# Altium footprint library SJ2088POE.PcbLib: 31 footprints (part 1 of 2)
Each footprint in its own frame and in the unit in brackets; x right, y up, seen from the top. Pads: shape width x height; smd on the part's side, far side on the other; paste and mask are expansions set on the pad; w line width, h text height; cw(c..) or ccw(c..) is an arc to the next point about the centre after c.
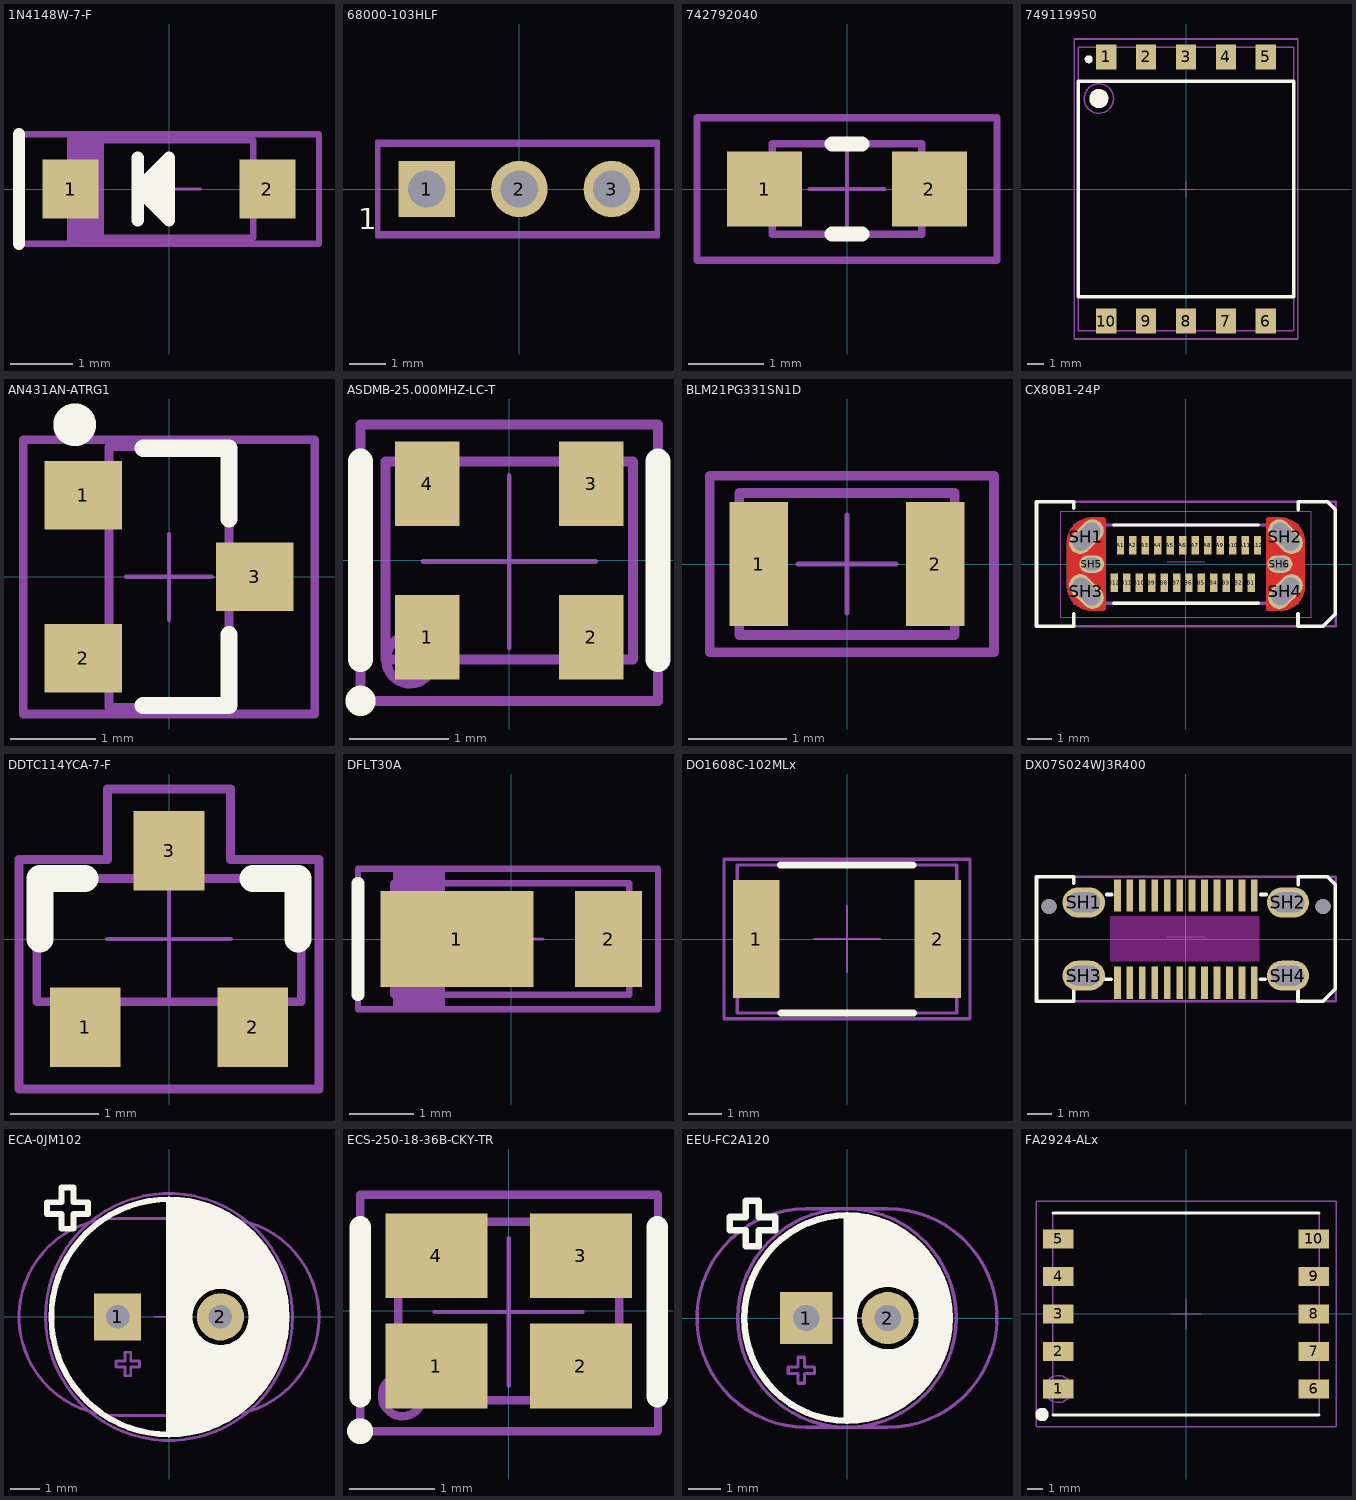
[diagram p0: the footprints below, top view; thin cyan lines are the x and y axes]

## 1N4148W-7-F [mm] "SOD123, 2-Leads, Body 2.7x1.55mm, Height 1.45mm"
height 1.45
pads (2):
  rect 0.9x0.95 smd: 1(-1.575,0) 2(1.575,0)
Top Overlay:
  region: 0,-0.5 0,0.5 -0.5,0
  lines w0.2: -2.4,-0.875 -2.4,0.875 ; -0.5,-0.5 -0.5,0 ; -0.5,0.5 -0.5,0 ; -0.5,0 0,0.5 0,-0.5 -0.5,0
Top Assembly:
  pour cut-out: -1.044,-0.875
  region: -1.044,-0.875 -1.044,0.875 -1.628,0.875 -1.628,-0.875
  lines w0.1: -2.4,-0.875 2.4,-0.875 2.4,0.875 -2.4,0.875 -2.4,-0.875
  text "'.Designator'" at 0,0 h1
Top Courtyard:
  lines w0.05: -0.5,0 0.5,0 ; 0,-0.5 0,0.5 ; -2.4,-0.875 2.4,-0.875 2.4,0.875 -2.4,0.875 -2.4,-0.875
Top Component Outline:
  lines w0.1: -1.35,-0.775 -1.35,0.775 1.35,0.775 1.35,-0.775 -1.35,-0.775
3D body: height 1.45, standoff 0, extent -1.35,-0.775 1.35,0.775

## 68000-103HLF [mm] "Connector Header Through Hole 3 position 0.100\" (2.54mm)"
height 8.38
pads (3):
  rect 1.55x1.55 hole 1.02: 1(-2.54,0)
  round 1.55 hole 1.02: 2(0,0) 3(2.54,0)
Top Overlay:
  text "1" at -4.43,-1.3 h1
Top Assembly:
  lines w0.1: -3.91,-1.305 3.81,-1.305 3.81,1.305 -3.91,1.305 -3.91,-1.305
  text "'.Designator'" at 0,0 h1
Top Courtyard:
  lines w0.05: -0.5,0 0.5,0 ; 0,-0.5 0,0.5 ; -3.91,-1.305 -3.91,1.305 3.81,1.305 3.81,-1.305 -3.91,-1.305
Top Component Outline:
  lines w0.1: -3.86,-1.205 3.76,-1.205 3.76,1.205 -3.86,1.205 -3.86,-1.205
3D body "68000-x03.stp": height 8.43, standoff -2.37, extent -3.86,-1.207 3.76,1.207

## 742792040 [mm] "Chip Inductor, 2-Leads, Body 2.0x1.2mm"
height 1.1
pads (2):
  rect 1x1 smd: 1(-1.1,0) 2(1.1,0)
Top Overlay:
  lines w0.1: 0,0.6 -0.2,0.6 ; -0.2,0.6 -0.2,0.6
  lines w0.2: -0.2,-0.6 0.2,-0.6 ; -0.2,0.6 0.2,0.6
Top Assembly:
  lines w0.1: -2,-0.95 -2,0.95 2,0.95 2,-0.95 -2,-0.95
  text "'.Designator'" at 0,0 h1
Top Courtyard:
  lines w0.05: -0.5,0 0.5,0 ; 0,-0.5 0,0.5 ; -2,-0.95 -2,0.95 2,0.95 2,-0.95 -2,-0.95
Top Component Outline:
  lines w0.1: -1,-0.6 -1,0.6 1,0.6 1,-0.6 -1,-0.6
3D body "74279201.stp": height 0.89, standoff -0.01, extent -1,-0.6 1,0.6

## 749119950 [mm] "SMD, 10-Leads, Body 13.5x14.0mm (max), Pitch 2.48mm, IPC Medium Density"
height 12.5
pads (10):
  rect 1.27x1.55 smd: 1(-5,8.275) 2(-2.5,8.275) 3(0,8.275) 4(2.5,8.275) 5(5,8.275) 6(5,-8.275) 7(2.5,-8.275) 8(0,-8.275) 9(-2.5,-8.275) 10(-5,-8.275)
Top Overlay:
  circle w0.6: c-5.461,5.669 r0.3
  circle w0.25: c-6.096,8.13 r0.125
  lines w0.2: -6.75,-6.75 -6.75,6.75 6.75,6.75 6.75,-6.75 -6.75,-6.75
Top Assembly:
  circle w0.1: c-5.461,5.669 r0.921
  lines w0.1: -7,-9.4 -7,9.1 -7,9.4 7,9.4 7,4.75 7,-9.4 -7,-9.4
  text "'.Designator'" at 0,0 h1
Top Courtyard:
  lines w0.05: -0.5,0 0.5,0 ; 0,-0.5 0,0.5 ; -7,-9.4 -7,9.4 7,9.4 7,-9.4 -7,-9.4
Top Component Outline:
  lines w0.1: -6.75,-8.875 -6.75,8.875 6.75,8.875 6.75,-8.875 -6.75,-8.875
3D body "WE-PoE_EP13_PoE.stp": height 12.6, standoff 0.1, extent -6.75,-8.875 6.75,8.875

## AN431AN-ATRG1 [mm] "SOT-23"
height 1.1
pads (3):
  rect 0.9x0.8 smd: 1(-1,0.95) 2(-1,-0.95) 3(1,0)
Top Overlay:
  circle w0.25: c-1.1,1.775 r0.125
  lines w0.2: -0.3,-1.5 0.7,-1.5 0.7,-0.675 ; -0.3,1.5 0.7,1.5 0.7,0.675
Top Assembly:
  lines w0.1: -1.7,-1.6 -1.7,1.6 1.026,1.6 1.7,1.6 1.7,-1.6 1.05,-1.6 -1.7,-1.6
  text ".Designator" at 0,0 h1
Top Courtyard:
  lines w0.05: -0.5,0 0.5,0 ; 0,-0.5 0,0.5 ; -1.7,-1.6 -1.7,1.6 1.026,1.6 1.7,1.6 1.7,-1.6 1.05,-1.6 -1.7,-1.6
Bottom Component Outline (Mech32):
  lines w0.1: -0.7,-1.52 -0.7,1.52 0.7,1.52 0.7,-1.52 -0.7,-1.52
3D body "DBZ0003AakaMF03A.stp": height 0.96, standoff -0.02, extent -1.257,-1.461 1.257,1.46

## ASDMB-25.000MHZ-LC-T [mm] "0.098\" L x 0.079\" W (2.50mm x 2.00mm)"
height 0.9
pads (4):
  rect 0.65x0.85 smd: 1(-0.825,-0.775) 2(0.825,-0.775) 3(0.825,0.775) 4(-0.825,0.775)
Top Overlay:
  circle w0.254: c-1.5,-1.416 r0.025
  lines w0.254: -1.5,-1 -1.5,1 ; 1.5,-0.999 1.5,1
Top Assembly:
  circle w0.1: c-1,-1 r0.242
  lines w0.1: -1.5,-1.416 1.5,-1.416 1.5,1.37 -1.5,1.37 -1.5,-1.416
  text "'.Designator'" at 0,-0.011 h1
Top Courtyard:
  lines w0.05: -0.87,-0.011 0,-0.011 ; 0,-0.881 0,-0.011 ; 0,0.859 0,-0.011 ; 0.87,-0.011 0,-0.011 ; -1.5,-1.416 1.5,-1.416 1.5,1.37 -1.5,1.37 -1.5,-1.416
Top Component Outline:
  lines w0.1: -1.25,-1 -1.25,1 1.25,1 1.25,-1 -1.25,-1
3D body "ASDMB.STEP": height 0.86, standoff 0.01, extent -1.25,-1 1.25,1

## BLM21PG331SN1D [mm]
pads (2):
  rect 0.6x1.26 smd: 1(-0.9,0) 2(0.9,0)
Top Assembly:
  lines w0.1: -1.4,-0.9 -1.4,0.9 1.5,0.9 1.5,-0.9 -1.4,-0.9
  text "'.Designator'" at 0,0 h1
Top Courtyard:
  lines w0.05: -0.5,0 0.5,0 ; 0,-0.5 0,0.5 ; -1.4,-0.9 -1.4,0.9 1.5,0.9 1.5,-0.9 -1.4,-0.9
Top Component Outline:
  lines w0.1: -1.1,-0.725 1.1,-0.725 1.1,0.725 -1.1,0.725 -1.1,-0.725
3D body: height 1.05, standoff 0, extent -0.6,-0.725 0.6,0.725
3D body: height 1.05, standoff 0, extent -1.1,-0.725 -0.6,0.725
3D body: height 1.05, standoff 0, extent 0.6,-0.725 1.1,0.725

## CX80B1-24P [mm] "USB3.1 Type-C Molex SMT, Through Hole, Vertical"
height 5
pads (30):
  rect 0.3x0.75 smd: A1(-2.625,0.755) A2(-2.125,0.755) A3(-1.625,0.755) A4(-1.125,0.755) A5(-0.625,0.755) A6(-0.125,0.755) A7(0.375,0.755) A8(0.875,0.755) A9(1.375,0.755) A10(1.875,0.755) A11(2.375,0.755) A12(2.875,0.755) B1(2.625,-0.755) B2(2.125,-0.755) B3(1.625,-0.755) B4(1.125,-0.755) B5(0.625,-0.755) B6(0.125,-0.755) B7(-0.375,-0.755) B8(-0.875,-0.755) B9(-1.375,-0.755) B10(-1.875,-0.755) B11(-2.375,-0.755) B12(-2.875,-0.755)
  oval 1.6x0.9 hole 0.7 slot 1.3 at 45 deg rot 45: SH1(-3.995,1.1) SH4(3.995,-1.1)
  oval 1.6x0.9 hole 0.7 slot 1.3 at 135 deg rot 135: SH2(3.995,1.1) SH3(-3.995,-1.1)
  oval 1x0.7 hole 0.5 slot 0.7 at 0 deg: SH5(-3.775,0) SH6(3.775,0)
Top Layer:
  region: -3.32,1.874 -3.315,1.874 -3.309,1.873 -3.304,1.872 -3.299,1.871 -3.294,1.87 -3.289,1.868 -3.284,1.866 -3.28,1.864 -3.275,1.861 -3.271,1.858 -3.266,1.855 -3.262,1.852 -3.258,1.849 -3.254,1.845 -3.251,1.841 -3.247,1.837 -3.244,1.833 -3.241,1.829 -3.238,1.825 -3.236,1.82 -3.234,1.815 -3.232,1.81 -3.23,1.805 -3.228,1.8 -3.227,1.795 -3.226,1.79 -3.226,1.785 -3.225,1.78 -3.225,1.775 -3.225,-1.775 -3.225,-1.781 -3.226,-1.786 -3.226,-1.791 -3.227,-1.796 -3.228,-1.801 -3.23,-1.806 -3.232,-1.811 -3.234,-1.816 -3.236,-1.821 -3.238,-1.825 -3.241,-1.83 -3.244,-1.834 -3.247,-1.838 -3.251,-1.842 -3.254,-1.846 -3.258,-1.85 -3.262,-1.853 -3.266,-1.856 -3.271,-1.859 -3.275,-1.862 -3.28,-1.865 -3.284,-1.867 -3.289,-1.869 -3.294,-1.871 -3.299,-1.872 -3.304,-1.873 -3.309,-1.874 -3.315,-1.875 -3.32,-1.875 -3.325,-1.875 -3.775,-1.875 -3.827,-1.874 -3.88,-1.87 -3.931,-1.863 -3.983,-1.854 -4.034,-1.841 -4.084,-1.827 -4.133,-1.809 -4.182,-1.789 -4.229,-1.766 -4.275,-1.742 -4.32,-1.714 -4.363,-1.685 -4.404,-1.653 -4.444,-1.619 -4.482,-1.583 -4.518,-1.545 -4.552,-1.505 -4.584,-1.463 -4.614,-1.42 -4.641,-1.375 -4.666,-1.329 -4.689,-1.282 -4.709,-1.234 -4.726,-1.185 -4.741,-1.134 -4.753,-1.083 -4.763,-1.032 -4.77,-0.98 -4.774,-0.928 -4.775,-0.875 -4.775,0.875 -4.774,0.927 -4.77,0.979 -4.763,1.031 -4.753,1.082 -4.741,1.133 -4.726,1.184 -4.709,1.233 -4.689,1.281 -4.666,1.329 -4.641,1.375 -4.614,1.419 -4.584,1.462 -4.552,1.504 -4.518,1.544 -4.482,1.582 -4.444,1.618 -4.404,1.652 -4.363,1.684 -4.32,1.713 -4.275,1.741 -4.229,1.766 -4.182,1.788 -4.133,1.808 -4.084,1.826 -4.034,1.84 -3.983,1.853 -3.931,1.862 -3.88,1.869 -3.827,1.873 -3.775,1.875 -3.325,1.875
  region: 3.827,1.873 3.88,1.869 3.931,1.862 3.983,1.853 4.034,1.84 4.084,1.826 4.133,1.808 4.182,1.788 4.229,1.766 4.275,1.741 4.32,1.713 4.363,1.684 4.404,1.652 4.444,1.618 4.482,1.582 4.518,1.544 4.552,1.504 4.584,1.462 4.614,1.419 4.641,1.375 4.666,1.329 4.689,1.281 4.709,1.233 4.726,1.184 4.741,1.133 4.753,1.082 4.763,1.031 4.77,0.979 4.774,0.927 4.775,0.875 4.775,-0.875 4.774,-0.928 4.77,-0.98 4.763,-1.032 4.753,-1.083 4.741,-1.134 4.726,-1.185 4.709,-1.234 4.689,-1.282 4.666,-1.329 4.641,-1.375 4.614,-1.42 4.584,-1.463 4.552,-1.505 4.518,-1.545 4.482,-1.583 4.444,-1.619 4.404,-1.653 4.363,-1.685 4.32,-1.714 4.275,-1.742 4.229,-1.766 4.182,-1.789 4.133,-1.809 4.084,-1.827 4.034,-1.841 3.983,-1.854 3.931,-1.863 3.88,-1.87 3.827,-1.874 3.775,-1.875 3.325,-1.875 3.32,-1.875 3.315,-1.875 3.309,-1.874 3.304,-1.873 3.299,-1.872 3.294,-1.871 3.289,-1.869 3.284,-1.867 3.28,-1.865 3.275,-1.862 3.271,-1.859 3.266,-1.856 3.262,-1.853 3.258,-1.85 3.254,-1.846 3.251,-1.842 3.247,-1.838 3.244,-1.834 3.241,-1.83 3.238,-1.825 3.236,-1.821 3.234,-1.816 3.232,-1.811 3.23,-1.806 3.228,-1.801 3.227,-1.796 3.226,-1.791 3.226,-1.786 3.225,-1.781 3.225,-1.775 3.225,1.775 3.225,1.78 3.226,1.785 3.226,1.79 3.227,1.795 3.228,1.8 3.23,1.805 3.232,1.81 3.234,1.815 3.236,1.82 3.238,1.825 3.241,1.829 3.244,1.833 3.247,1.837 3.251,1.841 3.254,1.845 3.258,1.849 3.262,1.852 3.266,1.855 3.271,1.858 3.275,1.861 3.28,1.864 3.284,1.866 3.289,1.868 3.294,1.87 3.299,1.871 3.304,1.872 3.309,1.873 3.315,1.874 3.32,1.874 3.325,1.875 3.775,1.875
Bottom Layer:
  region: 3.827,1.873 3.88,1.869 3.931,1.862 3.983,1.853 4.034,1.84 4.084,1.826 4.133,1.808 4.182,1.788 4.229,1.766 4.275,1.741 4.32,1.713 4.363,1.684 4.404,1.652 4.444,1.618 4.482,1.582 4.518,1.544 4.552,1.504 4.584,1.462 4.614,1.419 4.641,1.375 4.666,1.329 4.689,1.281 4.709,1.233 4.726,1.184 4.741,1.133 4.753,1.082 4.763,1.031 4.77,0.979 4.774,0.927 4.775,0.875 4.775,-0.875 4.774,-0.928 4.77,-0.98 4.763,-1.032 4.753,-1.083 4.741,-1.134 4.726,-1.185 4.709,-1.234 4.689,-1.282 4.666,-1.329 4.641,-1.375 4.614,-1.42 4.584,-1.463 4.552,-1.505 4.518,-1.545 4.482,-1.583 4.444,-1.619 4.404,-1.653 4.363,-1.685 4.32,-1.714 4.275,-1.742 4.229,-1.766 4.182,-1.789 4.133,-1.809 4.084,-1.827 4.034,-1.841 3.983,-1.854 3.931,-1.863 3.88,-1.87 3.827,-1.874 3.775,-1.875 3.325,-1.875 3.32,-1.875 3.315,-1.875 3.309,-1.874 3.304,-1.873 3.299,-1.872 3.294,-1.871 3.289,-1.869 3.284,-1.867 3.28,-1.865 3.275,-1.862 3.271,-1.859 3.266,-1.856 3.262,-1.853 3.258,-1.85 3.254,-1.846 3.251,-1.842 3.247,-1.838 3.244,-1.834 3.241,-1.83 3.238,-1.825 3.236,-1.821 3.234,-1.816 3.232,-1.811 3.23,-1.806 3.228,-1.801 3.227,-1.796 3.226,-1.791 3.226,-1.786 3.225,-1.781 3.225,-1.775 3.225,1.775 3.225,1.78 3.226,1.785 3.226,1.79 3.227,1.795 3.228,1.8 3.23,1.805 3.232,1.81 3.234,1.815 3.236,1.82 3.238,1.825 3.241,1.829 3.244,1.833 3.247,1.837 3.251,1.841 3.254,1.845 3.258,1.849 3.262,1.852 3.266,1.855 3.271,1.858 3.275,1.861 3.28,1.864 3.284,1.866 3.289,1.868 3.294,1.87 3.299,1.871 3.304,1.872 3.309,1.873 3.315,1.874 3.32,1.874 3.325,1.875 3.775,1.875
  region: -3.32,1.874 -3.315,1.874 -3.309,1.873 -3.304,1.872 -3.299,1.871 -3.294,1.87 -3.289,1.868 -3.284,1.866 -3.28,1.864 -3.275,1.861 -3.271,1.858 -3.266,1.855 -3.262,1.852 -3.258,1.849 -3.254,1.845 -3.251,1.841 -3.247,1.837 -3.244,1.833 -3.241,1.829 -3.238,1.825 -3.236,1.82 -3.234,1.815 -3.232,1.81 -3.23,1.805 -3.228,1.8 -3.227,1.795 -3.226,1.79 -3.226,1.785 -3.225,1.78 -3.225,1.775 -3.225,-1.775 -3.225,-1.781 -3.226,-1.786 -3.226,-1.791 -3.227,-1.796 -3.228,-1.801 -3.23,-1.806 -3.232,-1.811 -3.234,-1.816 -3.236,-1.821 -3.238,-1.825 -3.241,-1.83 -3.244,-1.834 -3.247,-1.838 -3.251,-1.842 -3.254,-1.846 -3.258,-1.85 -3.262,-1.853 -3.266,-1.856 -3.271,-1.859 -3.275,-1.862 -3.28,-1.865 -3.284,-1.867 -3.289,-1.869 -3.294,-1.871 -3.299,-1.872 -3.304,-1.873 -3.309,-1.874 -3.315,-1.875 -3.32,-1.875 -3.325,-1.875 -3.775,-1.875 -3.827,-1.874 -3.88,-1.87 -3.931,-1.863 -3.983,-1.854 -4.034,-1.841 -4.084,-1.827 -4.133,-1.809 -4.182,-1.789 -4.229,-1.766 -4.275,-1.742 -4.32,-1.714 -4.363,-1.685 -4.404,-1.653 -4.444,-1.619 -4.482,-1.583 -4.518,-1.545 -4.552,-1.505 -4.584,-1.463 -4.614,-1.42 -4.641,-1.375 -4.666,-1.329 -4.689,-1.282 -4.709,-1.234 -4.726,-1.185 -4.741,-1.134 -4.753,-1.083 -4.763,-1.032 -4.77,-0.98 -4.774,-0.928 -4.775,-0.875 -4.775,0.875 -4.774,0.927 -4.77,0.979 -4.763,1.031 -4.753,1.082 -4.741,1.133 -4.726,1.184 -4.709,1.233 -4.689,1.281 -4.666,1.329 -4.641,1.375 -4.614,1.419 -4.584,1.462 -4.552,1.504 -4.518,1.544 -4.482,1.582 -4.444,1.618 -4.404,1.652 -4.363,1.684 -4.32,1.713 -4.275,1.741 -4.229,1.766 -4.182,1.788 -4.133,1.808 -4.084,1.826 -4.034,1.84 -3.983,1.853 -3.931,1.862 -3.88,1.869 -3.827,1.873 -3.775,1.875 -3.325,1.875
Top Overlay:
  lines w0.127: -2.905,-1.57 2.905,-1.57 ; -2.905,1.57 2.905,1.57
  lines w0.15: -4.5,-1.993 -4.5,-2.5 -6,-2.5 -6,2.5 -4.5,2.5 -4.5,2.238 ; 4.502,-1.991 4.502,-2.5 5.506,-2.5 5.591,-2.415 6,-2.006 6,2.186 5.686,2.5 5.601,2.5 4.506,2.5 4.506,2.18
Top Solder:
  drawing of 2 lines, arcs and shapes, not listed
Bottom Solder:
  drawing of 2 lines, arcs and shapes, not listed
Top Assembly:
  lines w0.1: -5.999,-2.506 6.024,-2.506 6.024,2.501 -5.999,2.501 -5.999,-2.506
  text "'.Designator'" at -0.776,-0.315 h1
Top 3D Body:
  lines w0.127: -4.47,-1.57 4.47,-1.57 4.47,1.57 -4.47,1.57 -4.47,-1.57
Top Courtyard:
  lines w0.05: -0.75,0.085 0,0.085 ; 0,-0.665 0,0.085 ; 0,0.835 0,0.085 ; 0.75,0.085 0,0.085 ; -6.018,-2.488 -6.018,2.512 6.012,2.512 6.012,-2.488 -6.018,-2.488 ; -5.025,-2.125 5.025,-2.125 5.025,2.125 -5.025,2.125 -5.025,-2.125
Top Component Outline:
  lines w0.1: -6.01,-2.492 6.027,-2.492 6.027,2.504 -6.01,2.504 -6.01,-2.492
3D body "CX80B1-24P_3D_STEP.stp": height 7.17, standoff -1.05, extent -5.5,-3.365 5.5,3.635

## DDTC114YCA-7-F [mm] "TO-236-3, SC-59, SOT-23-3"
height 1
pads (3):
  rect 0.8x0.9 smd: 1(-0.95,-1) 2(0.95,-1) 3(0,1)
Top Overlay:
  lines w0.305: -1.461,0 -1.461,0.686 -0.953,0.686 ; 0.952,0.686 1.46,0.686 1.46,0
Top Assembly:
  lines w0.1: -1.7,-1.7 1.7,-1.7 1.7,0.9 0.698,0.9 0.698,1.7 -0.698,1.7 -0.698,0.9 -1.7,0.9 -1.7,-1.7
  text "'.Designator'" at 0,0 h1
Top Courtyard:
  lines w0.05: -0.698,0 0.002,0 ; -0.002,0 0.698,0 ; 0,-0.698 0,0.002 ; 0,0 0,0.7 ; -1.7,-1.7 1.7,-1.7 1.7,0.9 0.698,0.9 0.698,1.7 -0.698,1.7 -0.698,0.9 -1.7,0.9 -1.7,-1.7
Top Component Outline:
  lines w0.1: -1.499,-0.711 -1.499,0.686 1.499,0.686 1.499,-0.711 -1.499,-0.711
3D body: height 1.1, standoff 0, extent -1.5,-0.7 1.5,0.7
3D body: height 0.5, standoff 0, extent -0.15,0.7 0.15,1.1
3D body: height 0.5, standoff 0, extent 0.8,-1.1 1.1,-0.7
3D body: height 0.5, standoff 0, extent -1.1,-1.1 -0.8,-0.7

## DFLT30A [mm] "PowerDI 123 Diodes Inc"
height 1
pads (2):
  rect 2.4x1.5 smd: 1(-0.85,0)
  rect 1.05x1.5 smd: 2(1.525,0)
Top Overlay:
  lines w0.2: -2.4,-0.875 -2.4,0.875
Top Assembly:
  pour cut-out: -1.044,-0.875
  region: -1.044,-1.1 -1.044,1.1 -1.847,1.1 -1.847,-1.1
  lines w0.1: -2.4,-1.1 -2.4,1.1 2.3,1.1 2.3,-1.1 -2.4,-1.1
  text "'.Designator'" at 0,0 h1
Top Courtyard:
  lines w0.05: -0.5,0 0.5,0 ; 0,-0.5 0,0.5 ; -2.4,-1.1 -2.4,1.1 2.3,1.1 2.3,-1.1 -2.4,-1.1
Top Component Outline:
  lines w0.1: -1.847,-0.875 1.851,-0.875 1.851,0.875 -1.847,0.875 -1.847,-0.875
3D body "PowerDI123.stp": height 0.98, standoff 0, extent -1.847,-0.89 1.851,0.89

## DO1608C-102MLx [mm] "Coil inductor 6.6x4.45mm"
height 2.92
pads (2):
  rect 1.4x3.56 smd: 1(-2.73,0) 2(2.73,0)
Top Overlay:
  lines w0.2: -2.007,2.225 1.993,2.225 ; -1.993,-2.225 2.007,-2.225
Top Assembly:
  lines w0.1: -3.7,-2.4 -3.7,2.4 3.7,2.4 3.7,-2.4 -3.7,-2.4
  text "'.Designator'" at 0,0 h1
Top Courtyard:
  lines w0.05: -1,0 0,0 ; 0,-1 0,0 ; 0,1 0,0 ; 1,0 0,0 ; -3.7,-2.4 -3.7,2.4 3.7,2.4 3.7,-2.4 -3.7,-2.4
Top Component Outline:
  lines w0.1: -3.3,-2.225 -3.3,2.225 3.3,2.225 3.3,-2.225 -3.3,-2.225
3D body "Coilcraft-DO1608C.STEP": height 2.92, standoff -0.01, extent -3.3,-2.225 3.3,2.225

## DX07S024WJ3R400 [mm] "USB3.1 Type-C Molex SMT, Through Hole, Vertical"
height 10
pads (28):
  rect 0.27x1.3 smd mask+0.05: A1(-2.75,1.75) A2(-2.25,1.75) A3(-1.75,1.75) A4(-1.25,1.75) A5(-0.75,1.75) A6(-0.25,1.75) A7(0.25,1.75) A8(0.75,1.75) A9(1.25,1.75) A10(1.75,1.75) A11(2.25,1.75) A12(2.75,1.75) B1(2.75,-1.75) B2(2.25,-1.75) B3(1.75,-1.75) B4(1.25,-1.75) B5(0.75,-1.75) B6(0.25,-1.75) B7(-0.25,-1.75) B8(-0.75,-1.75) B9(-1.25,-1.75) B10(-1.75,-1.75) B11(-2.25,-1.75) B12(-2.75,-1.75)
  oval 1.7x1.2 hole 0.8 slot 1.3 at 0 deg mask+0.05: SH1(-4.1,1.47) SH2(4.1,1.47) SH3(-4.1,-1.47) SH4(4.1,-1.47)
via 5.5,1.3 diameter 0.6 hole 0.6
via -5.5,1.3 diameter 0.6 hole 0.6
Top Layer keep-out:
  rectangle: -3.051,-0.903 2.949,0.921
Top Overlay:
  lines w0.15: -4.5,-1.993 -4.5,-2.5 -6,-2.5 -6,2.5 -4.5,2.5 -4.5,2.238 ; -3.23,-1.614 -3.01,-1.616 ; -3.176,1.785 -2.986,1.787 ; 2.984,-1.615 3.184,-1.615 ; 3.001,1.785 3.23,1.785 ; 4.502,-1.991 4.502,-2.5 5.506,-2.5 5.591,-2.415 6,-2.006 6,2.186 5.686,2.5 5.601,2.5 4.506,2.5 4.506,2.18
Top Assembly:
  lines w0.1: -5.999,-2.506 6.024,-2.506 6.024,2.501 -5.999,2.501 -5.999,-2.506
  text "'.Designator'" at -0.776,-0.315 h1
Top Courtyard:
  lines w0.05: -0.75,0.085 0,0.085 ; 0,-0.665 0,0.085 ; 0,0.835 0,0.085 ; 0.75,0.085 0,0.085 ; -6.018,-2.488 -6.018,2.512 6.012,2.512 6.012,-2.488 -6.018,-2.488
Top Component Outline:
  lines w0.1: -6.01,-2.492 6.027,-2.492 6.027,2.504 -6.01,2.504 -6.01,-2.492
3D body "K3D-DX07S024WJ3-V2_JAE_Proprietary.STEP": height 10, standoff -1.8, extent -6,-2.5 6,2.5

## ECA-0JM102 [mm] "Body diameter: 8mm, lead pitch: 3.5mm"
height 16
pads (2):
  rect 1.6x1.6 / inner round 1.6 / far side rect 1.6x1.6 hole 0.8 mask+0.05: 1(-1.75,0)
  round 1.6 hole 0.8 mask+0.05: 2(1.75,0)
Top Overlay:
  circle w0.2: c0,0 r4
  circle w0.1: c1.75,0 r1
  region: 0,4 0,0 0.75,0 0.762,0.104 0.816,0.305 0.909,0.492 1.036,0.658 1.193,0.795 1.373,0.899 1.571,0.966 1.778,0.993 1.882,0.991 1.973,0.977 2.147,0.923 2.308,0.835 2.449,0.718 2.51,0.65 2.567,0.582 2.66,0.431 2.721,0.264 2.749,0.089 2.75,0 4,0 4,0.262 3.932,0.782 3.796,1.289 3.595,1.773 3.333,2.227 3.014,2.643 2.643,3.014 2.227,3.333 1.773,3.595 1.289,3.796 0.782,3.932 0.262,4
  region: 0,-4 0,0 0.75,0 0.759,-0.131 0.826,-0.383 0.957,-0.609 1.141,-0.793 1.367,-0.924 1.619,-0.991 1.881,-0.991 2.133,-0.924 2.359,-0.793 2.543,-0.609 2.674,-0.383 2.741,-0.131 2.75,0 4,0 4,-0.262 3.932,-0.782 3.796,-1.289 3.595,-1.773 3.333,-2.227 3.014,-2.643 2.643,-3.014 2.227,-3.333 1.773,-3.595 1.289,-3.796 0.782,-3.932 0.262,-4
  lines w0.2: -4.15,3.5 -3.65,3.5 -3.65,3 -3.25,3 -3.25,3.5 -2.75,3.5 -2.75,3.9 -3.25,3.9 -3.25,4.4 -3.65,4.4 -3.65,3.9 -4.15,3.9 -4.15,3.5
  lines w0.203: 0,-4 0,4
Top Assembly:
  circle w0.1: c0,0 r4.2
  lines w0.1: -1.8,-1.7 -1.5,-1.7 -1.5,-2 -1.3,-2 -1.3,-1.7 -1,-1.7 -1,-1.5 -1.3,-1.5 -1.3,-1.2 -1.5,-1.2 -1.5,-1.5 -1.8,-1.5 -1.8,-1.7 ; 1,-1.7 1.8,-1.7 1.8,-1.5 1,-1.5 1,-1.7
  text "'.Designator'" at 0,0 h1
Top Courtyard:
  circle w0.05: c0,0 r4.2
  lines w0.05: -0.5,0 0.5,0 ; 0,-0.5 0,0.5
Bottom Courtyard:
  lines w0.1: -1.75,-3.35 cw(c-1.75,0) -1.75,3.35 1.75,3.35 cw(c1.75,0) 1.75,-3.35 -1.75,-3.35
Top Component Outline:
  circle w0.1: c0,0 r4
3D body "ELCO-D8P3.5H11.5LD0.6.stp": height 12.5, standoff -2, extent -4,-4 4,4

## ECS-250-18-36B-CKY-TR [mm] "2.5x2.0mm ceramic SMD"
height 0.6
pads (4):
  rect 1.2x1 smd: 1(-0.85,-0.65) 2(0.85,-0.65) 3(0.85,0.65) 4(-0.85,0.65)
Top Overlay:
  circle w0.254: c-1.748,-1.416 r0.025
  lines w0.254: -1.748,-1.011 -1.748,0.989 ; 1.752,-1.011 1.752,-0.011 1.752,0.989
Top Assembly:
  circle w0.1: c-1.25,-0.998 r0.242
  lines w0.1: -1.748,-1.416 -1.748,1.37 1.759,1.37 1.759,-1.416 -1.748,-1.416
  text "'.Designator'" at 0,0 h1
Top Courtyard:
  lines w0.05: -1.748,0.989 -1.748,1.37 ; -0.87,-0.011 0,-0.011 ; 0,-0.881 0,-0.011 ; 0,0.859 0,-0.011 ; 0.87,-0.011 0,-0.011 ; -1.748,1.37 -1.748,-1.416 1.759,-1.416 1.759,1.37 -1.748,1.37
Top Component Outline:
  lines w0.1: -1.3,-1.05 -1.3,1.05 1.3,1.05 1.3,-1.05 -1.3,-1.05
3D body: height 0.6, standoff 0, extent -1.3,-1.05 1.3,1.05

## EEU-FC2A120 [mm] "Body diameter: 6.3mm, lead pitch: 2.5mm"
height 12.2
pads (2):
  rect 1.6x1.6 / inner round 1.6 / far side rect 1.6x1.6 hole 0.8 mask+0.05: 1(-1.25,0)
  round 1.6 hole 0.8 mask+0.05: 2(1.25,0)
Top Overlay:
  circle w0.1: c1.25,0 r1
  circle w0.2: c0,0 r3.15
  region: 0,-3.15 0,0 0.25,0 0.259,-0.131 0.326,-0.383 0.457,-0.609 0.641,-0.793 0.867,-0.924 1.119,-0.991 1.381,-0.991 1.633,-0.924 1.859,-0.793 2.043,-0.609 2.174,-0.383 2.241,-0.131 2.25,0 3.15,0 3.15,-0.206 3.096,-0.616 2.989,-1.015 2.831,-1.396 2.625,-1.754 2.373,-2.081 2.081,-2.373 1.754,-2.625 1.396,-2.831 1.015,-2.989 0.616,-3.096 0.206,-3.15
  region: 0,3.15 0,0 0.25,0 0.259,0.131 0.326,0.383 0.457,0.609 0.641,0.793 0.867,0.924 1.119,0.991 1.381,0.991 1.633,0.924 1.859,0.793 2.043,0.609 2.174,0.383 2.241,0.131 2.25,0 3.15,0 3.15,0.206 3.096,0.616 2.989,1.015 2.831,1.396 2.625,1.754 2.373,2.081 2.081,2.373 1.754,2.625 1.396,2.831 1.015,2.989 0.616,3.096 0.206,3.15
  lines w0.2: -3.6,2.7 -3.6,3.1 -3.1,3.1 -3.1,3.6 -2.7,3.6 -2.7,3.1 -2.2,3.1 -2.2,2.7 -2.7,2.7 -2.7,2.2 -3.1,2.2 -3.1,2.7 -3.6,2.7
  lines w0.203: 0,-3.15 0,3.15
Top Assembly:
  circle w0.1: c0,0 r3.35
  lines w0.1: -1.8,-1.7 -1.8,-1.5 -1.5,-1.5 -1.5,-1.2 -1.3,-1.2 -1.3,-1.5 -1,-1.5 -1,-1.7 -1.3,-1.7 -1.3,-2 -1.5,-2 -1.5,-1.7 -1.8,-1.7 ; 1,-1.7 1,-1.5 1.8,-1.5 1.8,-1.7 1,-1.7
  text "'.Designator'" at 0,0 h1
Top Courtyard:
  circle w0.05: c0,0 r3.35
  lines w0.05: -0.5,0 0.5,0 ; 0,-0.5 0,0.5
Bottom Courtyard:
  lines w0.1: -1.25,-3.35 cw(c-1.25,0) -1.25,3.35 1.25,3.35 cw(c1.25,0) 1.25,-3.35 -1.25,-3.35
Top Component Outline:
  circle w0.1: c0,0 r3.15
3D body "EC 6.3x11 P2.5 D0.5.STEP": height 12, standoff -0.8, extent -3.15,-3.15 3.15,3.15

## FA2924-ALx [mm] "13x13.46mm Gullwing flyback transformer"
height 12.7
pads (11):
  rect 2.03x1.27 smd: 1(-8.51,-5) 1(-8.51,-5) 2(-8.51,-2.5) 3(-8.51,0) 4(-8.51,2.5) 5(-8.51,5) 6(8.51,-5) 7(8.51,-2.5) 8(8.51,0) 9(8.51,2.5) 10(8.51,5)
Top Overlay:
  circle w0.5: c-9.6,-6.7 r0.2
  lines w0.2: -8.875,-6.73 8.875,-6.73 ; -8.875,6.73 8.875,6.73
Top Assembly:
  circle w0.1: c-8.51,-5 r0.899
  lines w0.1: -10,-7.5 -10,7.5 10,7.5 10,-7.5 -10,-7.5
  text "'.Designator'" at 0,0 h1
Top Courtyard:
  lines w0.05: -0.994,0 0.006,0 ; 0,1 0,0 1,0 ; 0.006,-0.994 0.006,0.006 ; -10,-7.5 -10,7.5 10,7.5 10,-7.5 -10,-7.5
Top Component Outline:
  lines w0.1: -8.875,-6.73 -8.875,6.73 8.875,6.73 8.875,-6.73 -8.875,-6.73
3D body "Coilcraft-FA2924-AL.step": height 12.6, standoff -0.1, extent -8.875,-6.73 8.875,6.73